# Altium footprint library PcbLib1.PcbLib: 329 footprints (part 8 of 21)
Each footprint in its own frame and in the unit in brackets; x right, y up, seen from the top. Pads: shape width x height; smd on the part's side, far side on the other; paste and mask are expansions set on the pad; w line width, h text height; cw(c..) or ccw(c..) is an arc to the next point about the centre after c.
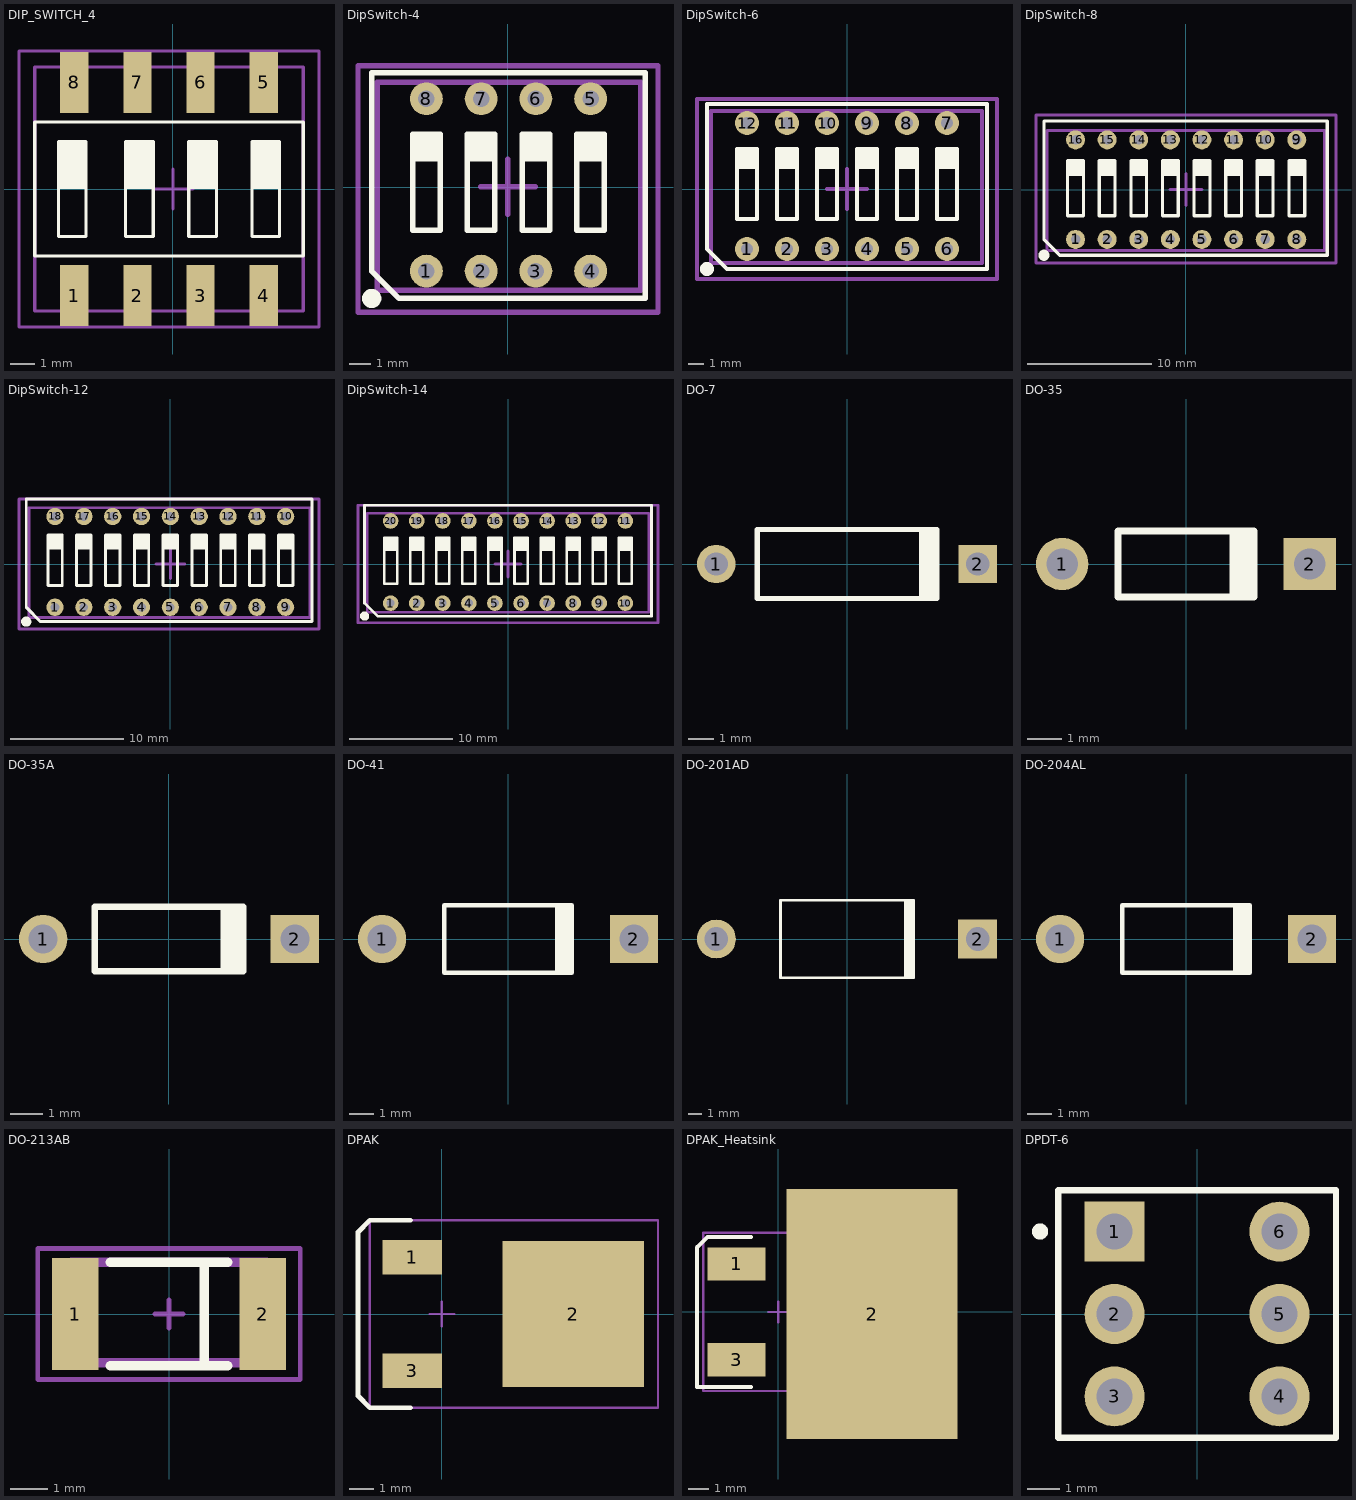
[diagram p7: the footprints below, top view; thin cyan lines are the x and y axes]

## DIP_SWITCH_4 [mm]
pads (8):
  rect 1.13x2.44 smd: 1(-3.969,-4.286) 2(-1.429,-4.286) 3(1.111,-4.286) 4(3.651,-4.286) 5(3.651,4.286) 6(1.111,4.286) 7(-1.429,4.286) 8(-3.969,4.286)
Top Overlay:
  rectangle: -1.905,0 -0.794,1.905
  rectangle: -4.604,0 -3.492,1.905
  rectangle: 0.635,0 1.746,1.905
  rectangle: 3.175,0 4.286,1.905
  lines w0.127: -5.556,-2.699 -5.556,2.699 -4.604,2.699 5.239,2.699 5.239,-2.699 -2.222,-2.699 -5.556,-2.699 ; -4.604,-1.905 -3.492,-1.905 -3.492,1.905 -4.604,1.905 -4.604,-1.905 ; -1.905,-1.905 -1.905,1.905 -0.794,1.905 -0.794,-1.905 -1.905,-1.905 ; 0.635,-1.905 1.746,-1.905 1.746,1.905 0.635,1.905 0.635,-1.905 ; 3.175,-1.905 4.286,-1.905 4.286,1.905 3.175,1.905 3.175,-1.905
Mechanical 13:
  lines w0.127: -5.556,-4.9 5.239,-4.9 5.239,4.9 -5.556,4.9 -5.556,-4.9
Mechanical 15:
  lines w0.127: -0.794,0 0.794,0 ; 0,-0.794 0,0.794 ; -6.191,-5.556 -4.921,-5.556 5.874,-5.556 5.874,5.556 -4.921,5.556 -6.191,5.556 -6.191,-5.556

## DipSwitch-4 [mil]
pads (8):
  round 60 hole 30: 1(-149.02,-152.76) 2(-49.02,-152.76) 3(50.98,-152.76) 4(150.98,-152.76) 5(150.98,162.24) 6(50.98,162.24) 7(-49.02,162.24) 8(-149.02,162.24)
Top Overlay:
  circle w25: c-249.02,-202.76 r5
  rectangle: 125.98,47.24 175.98,97.24
  rectangle: 25.98,47.24 75.98,97.24
  rectangle: -74.02,47.24 -24.02,97.24
  rectangle: -174.02,47.24 -124.02,97.24
  lines w10: -249.02,-152.76 -199.02,-202.76 250.59,-202.76 250.59,209.74 -249.02,209.74 -249.02,-152.76 ; -174.02,-77.76 -124.02,-77.76 -124.02,97.24 -174.02,97.24 -174.02,-77.76 ; -74.02,-77.76 -74.02,97.24 -24.02,97.24 -24.02,-77.76 -74.02,-77.76 ; 25.98,-77.76 25.98,97.24 75.98,97.24 75.98,-77.76 25.98,-77.76 ; 125.98,-77.76 175.98,-77.76 175.98,97.24 125.98,97.24 125.98,-77.76
Mechanical 13:
  lines w10: -238.98,-187.91 -238.98,192.2 242.72,192.2 242.72,-187.91 -238.98,-187.91
Mechanical 15:
  lines w10: -50,1.18 50,1.18 ; 0,-48.82 0,51.18 ; -274.02,-227.76 274.21,-227.76 274.21,222.24 -274.02,222.24 -274.02,-227.76
3D body: height 21.65, standoff -21.65, extent -350,250 -350,250
3D body: height 21.65, standoff -21.65, extent -350,250 -350,250
3D body "c-5435802-3-b-3d.stp": height 289.37, standoff -135.79, extent -238.98,-188.12 240.94,192

## DipSwitch-6 [mil]
pads (12):
  round 60 hole 30: 1(-250,-150) 2(-150,-150) 3(-50,-150) 4(50,-150) 5(150,-150) 6(250,-150) 7(250,165) 8(150,165) 9(50,165) 10(-50,165) 11(-150,165) 12(-250,165)
Top Overlay:
  circle w25: c-350,-200 r5
  rectangle: -275,50 -225,100
  rectangle: -175,50 -125,100
  rectangle: -75,50 -25,100
  rectangle: 125,50 175,100
  rectangle: 25,50 75,100
  rectangle: 225,50 275,100
  lines w10: -350,-150 -350,212.5 350,212.5 350,-200 -300,-200 -350,-150 ; -275,-75 -275,100 -225,100 -225,-75 -275,-75 ; -175,-75 -125,-75 -125,100 -175,100 -175,-75 ; -75,-75 -25,-75 -25,100 -75,100 -75,-75 ; 25,-75 25,100 75,100 75,-75 25,-75 ; 125,-75 175,-75 175,100 125,100 125,-75 ; 225,-75 275,-75 275,100 225,100 225,-75
Mechanical 13:
  lines w10: -339.96,-185.16 337.5,-185.16 337.5,194.96 -339.96,194.96 -339.96,-185.16
Mechanical 15:
  lines w10: -50,0 50,0 ; 0,-50 0,50 ; -375,-225 -375,225 375,225 375,-225 -375,-225
3D body: height 21.65, standoff -21.65, extent -350,250 -350,250
3D body: height 21.65, standoff -21.65, extent -350,250 -350,250
3D body "c-5435802-5-b-3d.stp": height 290, standoff -135.16, extent -339.97,-185.36 339.96,194.76

## DipSwitch-8 [mil]
pads (16):
  round 60 hole 30: 1(-349.41,-157.87) 2(-249.41,-157.87) 3(-149.41,-157.87) 4(-49.41,-157.87) 5(50.59,-157.87) 6(150.59,-157.87) 7(250.59,-157.87) 8(350.59,-157.87) 9(350.59,157.13) 10(250.59,157.13) 11(150.59,157.13) 12(50.59,157.13) 13(-49.41,157.13) 14(-149.41,157.13) 15(-249.41,157.13) 16(-349.41,157.13)
Top Overlay:
  circle w25: c-449.41,-207.87 r5
  rectangle: 125.59,42.13 175.59,92.13
  rectangle: 325.59,42.13 375.59,92.13
  rectangle: 225.59,42.13 275.59,92.13
  rectangle: -74.41,42.13 -24.41,92.13
  rectangle: 25.59,42.13 75.59,92.13
  rectangle: -174.41,42.13 -124.41,92.13
  rectangle: -274.41,42.13 -224.41,92.13
  rectangle: -374.41,42.13 -324.41,92.13
  lines w10: -449.41,-157.87 -399.41,-207.87 447.05,-207.87 447.05,217.13 -449.41,217.13 -449.41,192.13 -449.41,-157.87 ; -374.41,-82.87 -324.41,-82.87 -324.41,92.13 -374.41,92.13 -374.41,-82.87 ; -274.41,-82.87 -274.41,92.13 -224.41,92.13 -224.41,-82.87 -274.41,-82.87 ; -174.41,-82.87 -174.41,92.13 -124.41,92.13 -124.41,-82.87 -174.41,-82.87 ; -74.41,-82.87 -24.41,-82.87 -24.41,92.13 -74.41,92.13 -74.41,-82.87 ; 25.59,-82.87 25.59,92.13 75.59,92.13 75.59,-82.87 25.59,-82.87 ; 125.59,-82.87 125.59,92.13 175.59,92.13 175.59,-82.87 125.59,-82.87 ; 225.59,-82.87 275.59,-82.87 275.59,92.13 225.59,92.13 225.59,-82.87 ; 325.59,-82.87 375.59,-82.87 375.59,92.13 325.59,92.13 325.59,-82.87
Mechanical 13:
  lines w10: -439.37,-193.03 -439.37,187.09 439.17,187.09 439.17,-193.03 -439.37,-193.03
Mechanical 15:
  lines w10: -50,0 50,0 ; 0,-50 0,50 ; -474.41,-232.87 -474.41,236.22 474.61,236.22 474.61,-232.87 -474.41,-232.87
3D body: height 21.65, standoff -21.65, extent -449.41,242.12 -449.41,242.12
3D body: height 21.65, standoff -21.65, extent -449.41,242.13 -449.41,242.13
3D body "c-5435802-9-b-3d.stp": height 289.37, standoff -135.79, extent -439.38,-193.23 440.54,186.88

## DipSwitch-12 [mil]
pads (18):
  round 60 hole 30: 1(-400,-150) 2(-300,-150) 3(-200,-150) 4(-100,-150) 5(0,-150) 6(100,-150) 7(200,-150) 8(300,-150) 9(400,-150) 10(400,165) 11(300,165) 12(200,165) 13(100,165) 14(0,165) 15(-100,165) 16(-200,165) 17(-300,165) 18(-400,165)
Top Overlay:
  circle w25: c-500,-200 r5
  rectangle: -425,50 -375,100
  rectangle: -325,50 -275,100
  rectangle: -225,50 -175,100
  rectangle: -25,50 25,100
  rectangle: -125,50 -75,100
  rectangle: 175,50 225,100
  rectangle: 275,50 325,100
  rectangle: 375,50 425,100
  rectangle: 75,50 125,100
  lines w10: -500,-150 -500,200 -500,225 491.44,225 491.44,-200 -450,-200 -500,-150 ; -425,-75 -425,100 -375,100 -375,-75 -425,-75 ; -325,-75 -275,-75 -275,100 -325,100 -325,-75 ; -225,-75 -175,-75 -175,100 -225,100 -225,-75 ; -125,-75 -125,100 -75,100 -75,-75 -125,-75 ; -25,-75 25,-75 25,100 -25,100 -25,-75 ; 75,-75 125,-75 125,100 75,100 75,-75 ; 175,-75 175,100 225,100 225,-75 175,-75 ; 275,-75 275,100 325,100 325,-75 275,-75 ; 375,-75 375,100 425,100 425,-75 375,-75
Mechanical 13:
  lines w10: -489.96,-185.16 484.38,-185.16 484.38,194.96 -489.96,194.96 -489.96,-185.16
Mechanical 15:
  lines w10: -50,0 50,0 ; 0,-50 0,50 ; -525,-225 515.62,-225 515.62,225 -525,225 -525,-225
3D body: height 21.65, standoff -21.65, extent -500,250 -500,250
3D body: height 21.65, standoff -21.65, extent -500,250 -500,250
3D body "c-5435802-7-b-3d.stp": height 288, standoff -137.16, extent -489.96,-183.91 489.96,196.21

## DipSwitch-14 [mil]
pads (20):
  round 60 hole 30: 1(-450,-150) 2(-350,-150) 3(-250,-150) 4(-150,-150) 5(-50,-150) 6(50,-150) 7(150,-150) 8(250,-150) 9(350,-150) 10(450,-150) 11(450,165) 12(350,165) 13(250,165) 14(150,165) 15(50,165) 16(-50,165) 17(-150,165) 18(-250,165) 19(-350,165) 20(-450,165)
Top Overlay:
  circle w25: c-550,-200 r5
  rectangle: -475,50 -425,100
  rectangle: -375,50 -325,100
  rectangle: -275,50 -225,100
  rectangle: -75,50 -25,100
  rectangle: -175,50 -125,100
  rectangle: 125,50 175,100
  rectangle: 225,50 275,100
  rectangle: 325,50 375,100
  rectangle: 425,50 475,100
  rectangle: 25,50 75,100
  lines w10: -550,-150 -550,200 -550,225 550,225 550,-200 -500,-200 -550,-150 ; -475,-75 -475,100 -425,100 -425,-75 -475,-75 ; -375,-75 -325,-75 -325,100 -375,100 -375,-75 ; -275,-75 -225,-75 -225,100 -275,100 -275,-75 ; -175,-75 -175,100 -125,100 -125,-75 -175,-75 ; -75,-75 -25,-75 -25,100 -75,100 -75,-75 ; 25,-75 75,-75 75,100 25,100 25,-75 ; 125,-75 125,100 175,100 175,-75 125,-75 ; 225,-75 225,100 275,100 275,-75 225,-75 ; 325,-75 325,100 375,100 375,-75 325,-75 ; 425,-75 425,100 475,100 475,-75 425,-75
Mechanical 13:
  lines w10: -539.96,-185.16 539.96,-185.16 539.96,194.96 -539.96,194.96 -539.96,-185.16
Mechanical 15:
  lines w10: -50,0 50,0 ; 0,-50 0,50 ; -575,-225 575,-225 575,225 -575,225 -575,-225
3D body: height 21.65, standoff -21.65, extent -550,250 -550,250
3D body: height 21.65, standoff -21.65, extent -550,250 -550,250
3D body "c-2-5435802-0-b-3d.stp": height 290, standoff -135.16, extent -539.96,-185.16 539.96,194.96

## DO-7 [mm] "Diode, Axial; Body 7 x 2.7 mm (LxDia. max), Lead Dia. 0.53 mm (max)"
height 2.7
pads (2):
  round 1.5 hole 0.9: 1(-5.1,0)
  rect 1.5x1.5 hole 0.9: 2(5.1,0)
Top Overlay:
  rectangle: 2.8,-1.35 3.6,1.35
  lines w0.2: 3.5,-1.35 -3.5,-1.35 -3.5,1.35 3.5,1.35

## DO-35 [mm] "Diode, Axial; Body 3.8 x 1.9 mm (LxDia. max), Lead Dia. 0.53 mm (max)"
height 1.9
pads (2):
  round 1.5 hole 0.9: 1(-3.55,0)
  rect 1.5x1.5 hole 0.9: 2(3.55,0)
Top Overlay:
  rectangle: 1.25,-0.95 2.05,0.95
  lines w0.2: 1.95,-0.95 -1.95,-0.95 -1.95,0.95 1.95,0.95

## DO-35A [mm] "Diode, Axial; Body 4.6 x 1.9 mm (LxDia. max), Lead Dia. 0.53 mm (max)"
height 2
pads (2):
  round 1.5 hole 0.9: 1(-3.9,0)
  rect 1.5x1.5 hole 0.9: 2(3.9,0)
Top Overlay:
  rectangle: 1.6,-1 2.4,1
  lines w0.2: 2.3,-1 -2.3,-1 -2.3,1 2.3,1

## DO-41 [mm] "Diode, Axial; Body 5.2 x 2.7 mm (LxDia. max), Lead Dia. 0.86 mm (max)"
height 2.8
pads (2):
  round 2 hole 1.2: 1(-5.23,0)
  rect 2x2 hole 1.2: 2(5.23,0)
Top Overlay:
  rectangle: 1.95,-1.4 2.75,1.4
  lines w0.2: 2.65,-1.4 -2.65,-1.4 -2.65,1.4 2.65,1.4

## DO-201AD [mm] "Diode, Axial; Body 9.5 x 5.6 mm (LxDia. max), Lead Dia. 1.32 mm (max)"
height 5.6
pads (2):
  round 2.8 hole 1.7: 1(-9.42,0)
  rect 2.8x2.8 hole 1.7: 2(9.42,0)
Top Overlay:
  rectangle: 4.1,-2.8 4.9,2.8
  lines w0.2: 4.8,-2.8 -4.8,-2.8 -4.8,2.8 4.8,2.8

## DO-204AL [mm] "Diode, Axial; Body 5.2 x 2.7 mm (LxDia. max), Lead Dia. 0.86 mm (max)"
height 2.7
pads (2):
  round 2 hole 1.2: 1(-5.23,0)
  rect 2x2 hole 1.2: 2(5.23,0)
Top Overlay:
  rectangle: 1.95,-1.4 2.75,1.4
  lines w0.2: 2.65,-1.4 -2.65,-1.4 -2.65,1.4 2.65,1.4

## DO-213AB [mm]
height 2.54
pads (2):
  rect 1.25x3 smd: 1(-2.5,0) 2(2.5,0)
Top Overlay:
  lines w0.254: -1.562,-1.375 1.562,-1.375 ; -1.562,1.375 1.562,1.375 ; 0.937,-1.375 0.937,1.375
Mechanical 1:
  lines w0.1: -0.2,0 0.2,0 ; 0,-0.2 0,0.2
  lines w0.254: -2.6,-1.295 -2.6,1.375 2.6,1.375 2.6,-1.295 -2.6,-1.295
Mechanical 15:
  lines w0.127: -0.375,0 0.375,0 ; 0,-0.375 0,0.375 ; -3.5,-1.75 -3.5,1.75 3.5,1.75 3.5,-1.75 -3.5,-1.75
3D body "User Library-Vishay - MELF DO-213AB.step": height 2.59, standoff -0.09, extent -2.6,-1.295 2.6,1.375

## DPAK [mm] "DPAK"
pads (3):
  rect 2.4x1.4 smd: 1(-1.2,2.3) 3(-1.2,-2.3)
  rect 5.75x5.9 smd: 2(5.325,0)
Top Overlay:
  lines w0.2: -1.27,-3.8 -2.921,-3.8 -3.4,-3.321 -3.4,3.321 -2.921,3.8 -1.27,3.8
Mechanical 13:
  lines w0.1: -2.921,-3.8 8.763,-3.8 8.763,3.8 -2.921,3.8 -2.921,-3.8
Mechanical 15:
  lines w0.1: -0.5,0 0.5,0 ; 0,-0.5 0,0.5 ; -2.921,-3.8 8.763,-3.8 8.763,3.8 -2.921,3.8 -2.921,-3.8
3D body "DPAK_TO-252A.step": height 2.37, standoff -0.03, extent -2.034,-3.367 8.066,3.367

## DPAK_Heatsink [mm] "DPAK"
pads (3):
  rect 2.8x1.6 smd: 1(-2,2.3) 3(-2,-2.3)
  rect 8.2x12 smd: 2(4.5,-0.1)
Top Overlay:
  lines w0.2: -1.3,-3.6 -3.9,-3.6 -3.9,3.1 -3.4,3.6 -1.3,3.6
Mechanical 13:
  lines w0.1: -3.6,-3.8 7.9,-3.8 7.9,3.8 -3.6,3.8 -3.6,-3.8
Mechanical 15:
  lines w0.1: -0.5,0 0.5,0 ; 0,-0.5 0,0.5 ; -3.6,-3.8 7.95,-3.8 7.95,3.8 -3.6,3.8 -3.6,-3.8
3D body "DPAK_TO-252A.step": height 2.37, standoff -0.03, extent -2.798,-3.367 7.302,3.367
3D body "DPAK_heatsink_V2.STEP": height 9.86, standoff -0.05, extent 0.3,-10.03 8.428,10.03

## DPDT-6 [mm] "Switch; 6 Leads"
pads (6):
  rect 1.85x1.85 hole 1.1: 1(-2.54,2.54)
  round 1.85 hole 1.1: 2(-2.54,0) 3(-2.54,-2.54) 4(2.54,-2.54) 5(2.54,0) 6(2.54,2.54)
Top Overlay:
  circle w0.25: c-4.836,2.541 r0.125
  lines w0.2: -4.28,-3.81 -4.28,3.81 4.28,3.81 4.28,-3.81 -4.28,-3.81